# Altium schematic symbol library jlcpcb_2025_04_inductors_extended_1210.schlib: 422 symbols (part 1 of 8)
Pins are listed as number, name and electrical type; pins without a type are passive.

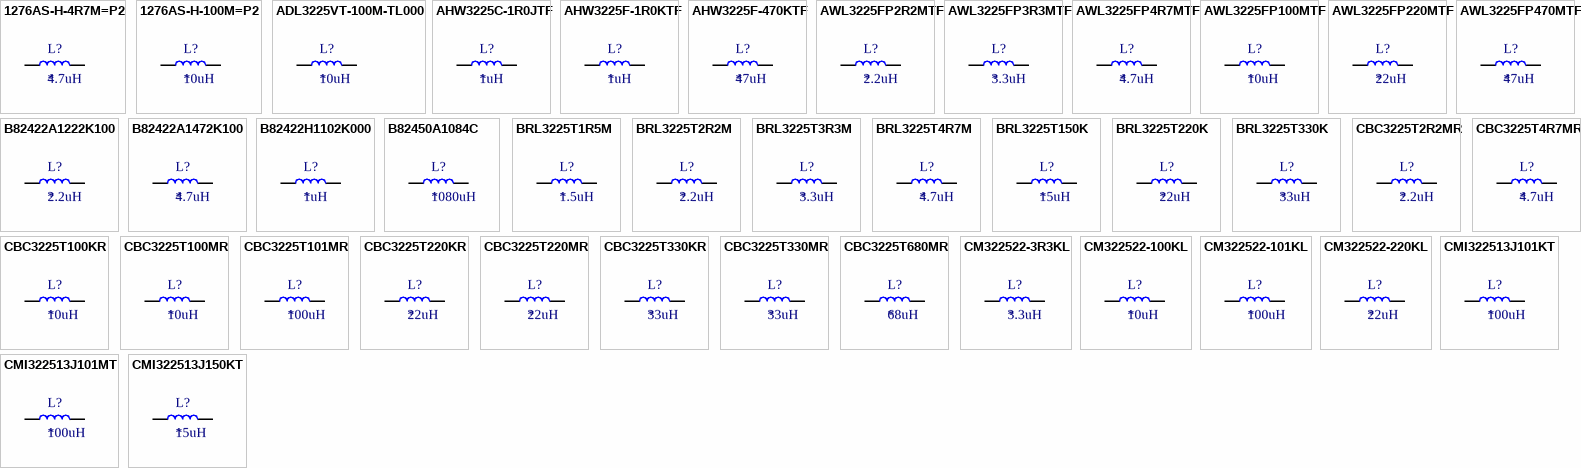
[diagram p0: symbols 1276AS-H-4R7M=P2 to CMI322513J150KT]

## 1276AS-H-4R7M=P2
designator L?  Inductance: 4.7uH
Inductor, 4.7uH, ±20%, 264mΩ, SMD 1210; Manufacturer: Murata Electronics; Manufacturer Part Number: 1276AS-H-4R7M=P2; Package Size: 1210; JLCPCB Basic Part: No; JLCPCB Part Number: C1330201; Supplier 1: LCSC; Category: Inductors; Supplier Part Number 1: C1330201; Tolerance: ±20%; DC Resistance: 264mΩ; RoHS: Yes; ComponentLink1Description: Datasheet; ComponentLink1URL: https://wmsc.lcsc.com/wmsc/upload/file/pdf/v2/lcsc/2304140030_Murata-Electronics-1276AS-H-4R7M-P2_C1330201.pdf; ComponentLink2Description: JLCPCB Part URL; ComponentLink2URL: https://jlcpcb.com/partdetail/C1330201; ComponentLink3Description: LCSC Part URL; ComponentLink3URL: https://lcsc.com/product-detail/Inductors-SMD_Murata-Electronics-Murata-Electronics-1276AS-H-4R7M%3DP2_C1330201.html
footprint IND-1210 (1210 (3225M) Inductor)
pins: 1, 2

## 1276AS-H-100M=P2
designator L?  Inductance: 10uH
Inductor, 10uH, ±20%, 588mΩ, 800mA, SMD 1210; Manufacturer: Murata Electronics; Manufacturer Part Number: 1276AS-H-100M=P2; Saturation Current: 1A; Package Size: 1210; JLCPCB Basic Part: No; JLCPCB Part Number: C2041531; Supplier 1: LCSC; Category: Inductors; Supplier Part Number 1: C2041531; Tolerance: ±20%; Rated Current: 800mA; DC Resistance: 588mΩ; RoHS: Yes; ComponentLink1Description: Datasheet; ComponentLink1URL: https://wmsc.lcsc.com/wmsc/upload/file/pdf/v2/lcsc/2304140030_Murata-Electronics-1276AS-H-100M-P2_C2041531.pdf; ComponentLink2Description: JLCPCB Part URL; ComponentLink2URL: https://jlcpcb.com/partdetail/C2041531; ComponentLink3Description: LCSC Part URL; ComponentLink3URL: https://lcsc.com/product-detail/Power-Inductors_Murata-Electronics-Murata-Electronics-1276AS-H-100M%3DP2_C2041531.html
footprint IND-1210 (1210 (3225M) Inductor)
pins: 1, 2

## ADL3225VT-100M-TL000
designator L?  Inductance: 10uH
Inductor, 10uH, ±20%, 150mΩ, 450mA, SMD 1210; Manufacturer: TDK; Manufacturer Part Number: ADL3225VT-100M-TL000; Package Size: 1210; JLCPCB Basic Part: No; JLCPCB Part Number: C2045459; Supplier 1: LCSC; Category: Inductors; Supplier Part Number 1: C2045459; Tolerance: ±20%; Rated Current: 450mA; Saturation Current: 450mA; DC Resistance: 150mΩ; RoHS: Yes; ComponentLink1Description: Datasheet; ComponentLink1URL: https://wmsc.lcsc.com/wmsc/upload/file/pdf/v2/lcsc/2202010230_TDK-ADL3225VT-100M-TL000_C2045459.pdf; ComponentLink2Description: JLCPCB Part URL; ComponentLink2URL: https://jlcpcb.com/partdetail/C2045459; ComponentLink3Description: LCSC Part URL; ComponentLink3URL: https://lcsc.com/product-detail/Power-Inductors_TDK-TDK-ADL3225VT-100M-TL000_C2045459.html
footprint IND-1210 (1210 (3225M) Inductor)
pins: 1, 2

## AHW3225C-1R0JTF
designator L?  Inductance: 1uH
Inductor, 1uH, ±5%, 1.85Ω, 320mA, SMD 1210; Manufacturer: APV; Manufacturer Part Number: AHW3225C-1R0JTF; Self-Resonant Frequency: 340MHz; Q Factor: 45@150MHZ; Package Size: 1210; JLCPCB Basic Part: No; JLCPCB Part Number: C18184914; Supplier 1: LCSC; Category: Inductors; Supplier Part Number 1: C18184914; Tolerance: ±5%; Rated Current: 320mA; DC Resistance: 1.85Ω; RoHS: Yes; ComponentLink1Description: Datasheet; ComponentLink1URL: https://wmsc.lcsc.com/wmsc/upload/file/pdf/v2/lcsc/2309151707_APV-AHW3225C-1R0JTF_C18184914.pdf; ComponentLink2Description: JLCPCB Part URL; ComponentLink2URL: https://jlcpcb.com/partdetail/C18184914; ComponentLink3Description: LCSC Part URL; ComponentLink3URL: https://lcsc.com/product-detail/Inductors-SMD_APV-APV-AHW3225C-1R0JTF_C18184914.html
footprint IND-1210 (1210 (3225M) Inductor)
pins: 1, 2

## AHW3225F-1R0KTF
designator L?  Inductance: 1uH
Inductor, 1uH, ±10%, 400mΩ, 450mA, SMD 1210; Manufacturer: APV; Manufacturer Part Number: AHW3225F-1R0KTF; Self-Resonant Frequency: 200MHz; Q Factor: 20; Package Size: 1210; JLCPCB Basic Part: No; JLCPCB Part Number: C18184941; Supplier 1: LCSC; Category: Inductors; Supplier Part Number 1: C18184941; Tolerance: ±10%; Rated Current: 450mA; DC Resistance: 400mΩ; RoHS: Yes; ComponentLink1Description: Datasheet; ComponentLink1URL: https://wmsc.lcsc.com/wmsc/upload/file/pdf/v2/lcsc/2309151707_APV-AHW3225F-1R0KTF_C18184941.pdf; ComponentLink2Description: JLCPCB Part URL; ComponentLink2URL: https://jlcpcb.com/partdetail/C18184941; ComponentLink3Description: LCSC Part URL; ComponentLink3URL: https://lcsc.com/product-detail/Inductors-SMD_APV-APV-AHW3225F-1R0KTF_C18184941.html
footprint IND-1210 (1210 (3225M) Inductor)
pins: 1, 2

## AHW3225F-470KTF
designator L?  Inductance: 47uH
Inductor, 47uH, ±10%, 5.2Ω, 140mA, SMD 1210; Manufacturer: APV; Manufacturer Part Number: AHW3225F-470KTF; Self-Resonant Frequency: 10MHz; Q Factor: 15; Package Size: 1210; JLCPCB Basic Part: No; JLCPCB Part Number: C18184947; Supplier 1: LCSC; Category: Inductors; Supplier Part Number 1: C18184947; Tolerance: ±10%; Rated Current: 140mA; DC Resistance: 5.2Ω; RoHS: Yes; ComponentLink1Description: Datasheet; ComponentLink1URL: https://wmsc.lcsc.com/wmsc/upload/file/pdf/v2/lcsc/2309151707_APV-AHW3225F-470KTF_C18184947.pdf; ComponentLink2Description: JLCPCB Part URL; ComponentLink2URL: https://jlcpcb.com/partdetail/C18184947; ComponentLink3Description: LCSC Part URL; ComponentLink3URL: https://lcsc.com/product-detail/Inductors-SMD_APV-APV-AHW3225F-470KTF_C18184947.html
footprint IND-1210 (1210 (3225M) Inductor)
pins: 1, 2

## AWL3225FP2R2MTF
designator L?  Inductance: 2.2uH
Inductor, 2.2uH, ±20%, 190mΩ, 1A, SMD 1210; Manufacturer: Sunlord; Manufacturer Part Number: AWL3225FP2R2MTF; Package Size: 1210; JLCPCB Basic Part: No; JLCPCB Part Number: C2846224; Supplier 1: LCSC; Category: Inductors; Supplier Part Number 1: C2846224; Tolerance: ±20%; Rated Current: 1A; Saturation Current: 1A; DC Resistance: 190mΩ; RoHS: Yes; ComponentLink1Description: Datasheet; ComponentLink1URL: https://wmsc.lcsc.com/wmsc/upload/file/pdf/v2/lcsc/2310301640_Sunlord-AWL3225FP2R2MTF_C2846224.pdf; ComponentLink2Description: JLCPCB Part URL; ComponentLink2URL: https://jlcpcb.com/partdetail/C2846224; ComponentLink3Description: LCSC Part URL; ComponentLink3URL: https://lcsc.com/product-detail/Inductors-SMD_Sunlord-Sunlord-AWL3225FP2R2MTF_C2846224.html
footprint IND-1210 (1210 (3225M) Inductor)
pins: 1, 2

## AWL3225FP3R3MTF
designator L?  Inductance: 3.3uH
Inductor, 3.3uH, ±20%, 240mΩ, 950mA, SMD 1210; Manufacturer: Sunlord; Manufacturer Part Number: AWL3225FP3R3MTF; Package Size: 1210; JLCPCB Basic Part: No; JLCPCB Part Number: C2846226; Supplier 1: LCSC; Category: Inductors; Supplier Part Number 1: C2846226; Tolerance: ±20%; Rated Current: 950mA; Saturation Current: 950mA; DC Resistance: 240mΩ; RoHS: Yes; ComponentLink1Description: Datasheet; ComponentLink1URL: https://wmsc.lcsc.com/wmsc/upload/file/pdf/v2/lcsc/2310301640_Sunlord-AWL3225FP3R3MTF_C2846226.pdf; ComponentLink2Description: JLCPCB Part URL; ComponentLink2URL: https://jlcpcb.com/partdetail/C2846226; ComponentLink3Description: LCSC Part URL; ComponentLink3URL: https://lcsc.com/product-detail/Inductors-SMD_Sunlord-Sunlord-AWL3225FP3R3MTF_C2846226.html
footprint IND-1210 (1210 (3225M) Inductor)
pins: 1, 2

## AWL3225FP4R7MTF
designator L?  Inductance: 4.7uH
Inductor, 4.7uH, ±20%, 280mΩ, 850mA, SMD 1210; Manufacturer: Sunlord; Manufacturer Part Number: AWL3225FP4R7MTF; Package Size: 1210; JLCPCB Basic Part: No; JLCPCB Part Number: C2846227; Supplier 1: LCSC; Category: Inductors; Supplier Part Number 1: C2846227; Tolerance: ±20%; Rated Current: 850mA; Saturation Current: 850mA; DC Resistance: 280mΩ; RoHS: Yes; ComponentLink1Description: Datasheet; ComponentLink1URL: https://wmsc.lcsc.com/wmsc/upload/file/pdf/v2/lcsc/2310301640_Sunlord-AWL3225FP4R7MTF_C2846227.pdf; ComponentLink2Description: JLCPCB Part URL; ComponentLink2URL: https://jlcpcb.com/partdetail/C2846227; ComponentLink3Description: LCSC Part URL; ComponentLink3URL: https://lcsc.com/product-detail/Inductors-SMD_Sunlord-Sunlord-AWL3225FP4R7MTF_C2846227.html
footprint IND-1210 (1210 (3225M) Inductor)
pins: 1, 2

## AWL3225FP100MTF
designator L?  Inductance: 10uH
Inductor, 10uH, ±20%, 400mΩ, SMD 1210; Manufacturer: Sunlord; Manufacturer Part Number: AWL3225FP100MTF; Saturation Current: 500mA; Package Size: 1210; JLCPCB Basic Part: No; JLCPCB Part Number: C2846228; Supplier 1: LCSC; Category: Inductors; Supplier Part Number 1: C2846228; Tolerance: ±20%; DC Resistance: 400mΩ; RoHS: Yes; ComponentLink1Description: Datasheet; ComponentLink1URL: https://wmsc.lcsc.com/wmsc/upload/file/pdf/v2/lcsc/2310271614_Sunlord-AWL3225FP100MTF_C2846228.pdf; ComponentLink2Description: JLCPCB Part URL; ComponentLink2URL: https://jlcpcb.com/partdetail/C2846228; ComponentLink3Description: LCSC Part URL; ComponentLink3URL: https://lcsc.com/product-detail/Inductors-SMD_Sunlord-Sunlord-AWL3225FP100MTF_C2846228.html
footprint IND-1210 (1210 (3225M) Inductor)
pins: 1, 2

## AWL3225FP220MTF
designator L?  Inductance: 22uH
Inductor, 22uH, ±20%, 620mΩ, SMD 1210; Manufacturer: Sunlord; Manufacturer Part Number: AWL3225FP220MTF; Saturation Current: 400mA; Package Size: 1210; JLCPCB Basic Part: No; JLCPCB Part Number: C2846229; Supplier 1: LCSC; Category: Inductors; Supplier Part Number 1: C2846229; Tolerance: ±20%; DC Resistance: 620mΩ; RoHS: Yes; ComponentLink1Description: Datasheet; ComponentLink1URL: https://wmsc.lcsc.com/wmsc/upload/file/pdf/v2/lcsc/2310301640_Sunlord-AWL3225FP220MTF_C2846229.pdf; ComponentLink2Description: JLCPCB Part URL; ComponentLink2URL: https://jlcpcb.com/partdetail/C2846229; ComponentLink3Description: LCSC Part URL; ComponentLink3URL: https://lcsc.com/product-detail/Inductors-SMD_Sunlord-Sunlord-AWL3225FP220MTF_C2846229.html
footprint IND-1210 (1210 (3225M) Inductor)
pins: 1, 2

## AWL3225FP470MTF
designator L?  Inductance: 47uH
Inductor, 47uH, ±20%, 900mΩ, SMD 1210; Manufacturer: Sunlord; Manufacturer Part Number: AWL3225FP470MTF; Saturation Current: 300mA; Package Size: 1210; JLCPCB Basic Part: No; JLCPCB Part Number: C2846230; Supplier 1: LCSC; Category: Inductors; Supplier Part Number 1: C2846230; Tolerance: ±20%; DC Resistance: 900mΩ; RoHS: Yes; ComponentLink1Description: Datasheet; ComponentLink1URL: https://wmsc.lcsc.com/wmsc/upload/file/pdf/v2/lcsc/2310301640_Sunlord-AWL3225FP470MTF_C2846230.pdf; ComponentLink2Description: JLCPCB Part URL; ComponentLink2URL: https://jlcpcb.com/partdetail/C2846230; ComponentLink3Description: LCSC Part URL; ComponentLink3URL: https://lcsc.com/product-detail/Inductors-SMD_Sunlord-Sunlord-AWL3225FP470MTF_C2846230.html
footprint IND-1210 (1210 (3225M) Inductor)
pins: 1, 2

## B82422A1222K100
designator L?  Inductance: 2.2uH
Inductor, 2.2uH, ±10%, 750mΩ, 270mA, SMD 1210; Manufacturer: TDK; Manufacturer Part Number: B82422A1222K100; Self-Resonant Frequency: 125MHz; Q Factor: 25@7.96MHz; Package Size: 1210; JLCPCB Basic Part: No; JLCPCB Part Number: C165772; Supplier 1: LCSC; Category: Inductors; Supplier Part Number 1: C165772; Tolerance: ±10%; Rated Current: 270mA; DC Resistance: 750mΩ; RoHS: Yes; ComponentLink1Description: Datasheet; ComponentLink1URL: https://wmsc.lcsc.com/wmsc/upload/file/pdf/v2/lcsc/1810201240_TDK-B82422A1222K100_C165772.pdf; ComponentLink2Description: JLCPCB Part URL; ComponentLink2URL: https://jlcpcb.com/partdetail/C165772; ComponentLink3Description: LCSC Part URL; ComponentLink3URL: https://lcsc.com/product-detail/Inductors-SMD_TDK-TDK-B82422A1222K100_C165772.html
footprint IND-1210 (1210 (3225M) Inductor)
pins: 1, 2

## B82422A1472K100
designator L?  Inductance: 4.7uH
Inductor, 4.7uH, ±10%, 2.2Ω, 150mA, SMD 1210; Manufacturer: TDK; Manufacturer Part Number: B82422A1472K100; Self-Resonant Frequency: 110MHz; Q Factor: 27@7.96MHz; Package Size: 1210; JLCPCB Basic Part: No; JLCPCB Part Number: C117731; Supplier 1: LCSC; Category: Inductors; Supplier Part Number 1: C117731; Tolerance: ±10%; Rated Current: 150mA; DC Resistance: 2.2Ω; RoHS: Yes; ComponentLink1Description: Datasheet; ComponentLink1URL: https://wmsc.lcsc.com/wmsc/upload/file/pdf/v2/lcsc/2304140030_TDK-B82422A1472K100_C117731.pdf; ComponentLink2Description: JLCPCB Part URL; ComponentLink2URL: https://jlcpcb.com/partdetail/C117731; ComponentLink3Description: LCSC Part URL; ComponentLink3URL: https://lcsc.com/product-detail/Inductors-SMD_TDK-TDK-B82422A1472K100_C117731.html
footprint IND-1210 (1210 (3225M) Inductor)
pins: 1, 2

## B82422H1102K000
designator L?  Inductance: 1uH
Inductor, 1uH, ±10%, 100mΩ, 1.15A, SMD 1210; Manufacturer: TDK; Manufacturer Part Number: B82422H1102K000; Saturation Current: 1.835A; Self-Resonant Frequency: 150MHz; Q Factor: 8@7.96MHz; Package Size: 1210; JLCPCB Basic Part: No; JLCPCB Part Number: C1329476; Supplier 1: LCSC; Category: Inductors; Supplier Part Number 1: C1329476; Tolerance: ±10%; Rated Current: 1.15A; DC Resistance: 100mΩ; RoHS: Yes; ComponentLink1Description: Datasheet; ComponentLink1URL: https://datasheet.lcsc.com/lcsc/2201141430_TDK-B82422H1102K000_C1329476.pdf; ComponentLink2Description: JLCPCB Part URL; ComponentLink2URL: https://jlcpcb.com/partdetail/C1329476; ComponentLink3Description: LCSC Part URL; ComponentLink3URL: https://lcsc.com/product-detail/Inductors-SMD_TDK-TDK-B82422H1102K000_C1329476.html
footprint IND-1210 (1210 (3225M) Inductor)
pins: 1, 2

## B82450A1084C
designator L?  Inductance: 1080uH
Inductor, 1080uH, ±5%, 35Ω, SMD 1210; Manufacturer: TDK; Manufacturer Part Number: B82450A1084C; Package Size: 1210; JLCPCB Basic Part: No; JLCPCB Part Number: C598660; Supplier 1: LCSC; Category: Inductors; Supplier Part Number 1: C598660; Tolerance: ±5%; DC Resistance: 35Ω; RoHS: Yes; ComponentLink1Description: Datasheet; ComponentLink1URL: https://wmsc.lcsc.com/wmsc/upload/file/pdf/v2/lcsc/2007311233_TDK-B82450A1084C_C598660.pdf; ComponentLink2Description: JLCPCB Part URL; ComponentLink2URL: https://jlcpcb.com/partdetail/C598660; ComponentLink3Description: LCSC Part URL; ComponentLink3URL: https://lcsc.com/product-detail/Inductors-SMD_TDK-TDK-B82450A1084C_C598660.html
footprint IND-1210 (1210 (3225M) Inductor)
pins: 1, 2

## BRL3225T1R5M
designator L?  Inductance: 1.5uH
Inductor, 1.5uH, ±20%, 54mΩ, 1.75A, SMD 1210; Manufacturer: Taiyo Yuden; Manufacturer Part Number: BRL3225T1R5M; Saturation Current: 2.2A; Self-Resonant Frequency: 100kHz; Package Size: 1210; JLCPCB Basic Part: No; JLCPCB Part Number: C454087; Supplier 1: LCSC; Category: Inductors; Supplier Part Number 1: C454087; Tolerance: ±20%; Rated Current: 1.75A; DC Resistance: 54mΩ; RoHS: Yes; ComponentLink1Description: Datasheet; ComponentLink1URL: https://wmsc.lcsc.com/wmsc/upload/file/pdf/v2/lcsc/2304140030_Taiyo-Yuden-BRL3225T1R5M_C454087.pdf; ComponentLink2Description: JLCPCB Part URL; ComponentLink2URL: https://jlcpcb.com/partdetail/C454087; ComponentLink3Description: LCSC Part URL; ComponentLink3URL: https://lcsc.com/product-detail/Inductors-SMD_Taiyo-Yuden-Taiyo-Yuden-BRL3225T1R5M_C454087.html
footprint IND-1210 (1210 (3225M) Inductor)
pins: 1, 2

## BRL3225T2R2M
designator L?  Inductance: 2.2uH
Inductor, 2.2uH, ±20%, 78mΩ, 1.6A, SMD 1210; Manufacturer: Taiyo Yuden; Manufacturer Part Number: BRL3225T2R2M; Saturation Current: 1.85A; Package Size: 1210; JLCPCB Basic Part: No; JLCPCB Part Number: C454089; Supplier 1: LCSC; Category: Inductors; Supplier Part Number 1: C454089; Tolerance: ±20%; Rated Current: 1.6A; DC Resistance: 78mΩ; RoHS: Yes; ComponentLink1Description: Datasheet; ComponentLink1URL: https://wmsc.lcsc.com/wmsc/upload/file/pdf/v2/lcsc/2304140030_Taiyo-Yuden-BRL3225T2R2M_C454089.pdf; ComponentLink2Description: JLCPCB Part URL; ComponentLink2URL: https://jlcpcb.com/partdetail/C454089; ComponentLink3Description: LCSC Part URL; ComponentLink3URL: https://lcsc.com/product-detail/Power-Inductors_Taiyo-Yuden-Taiyo-Yuden-BRL3225T2R2M_C454089.html
footprint IND-1210 (1210 (3225M) Inductor)
pins: 1, 2

## BRL3225T3R3M
designator L?  Inductance: 3.3uH
Inductor, 3.3uH, ±20%, 144mΩ, 1.2A, SMD 1210; Manufacturer: Taiyo Yuden; Manufacturer Part Number: BRL3225T3R3M; Saturation Current: 1.45A; Package Size: 1210; JLCPCB Basic Part: No; JLCPCB Part Number: C2046269; Supplier 1: LCSC; Category: Inductors; Supplier Part Number 1: C2046269; Tolerance: ±20%; Rated Current: 1.2A; DC Resistance: 144mΩ; RoHS: Yes; ComponentLink1Description: Datasheet; ComponentLink1URL: https://wmsc.lcsc.com/wmsc/upload/file/pdf/v2/lcsc/2309051353_Taiyo-Yuden-BRL3225T3R3M_C2046269.pdf; ComponentLink2Description: JLCPCB Part URL; ComponentLink2URL: https://jlcpcb.com/partdetail/C2046269; ComponentLink3Description: LCSC Part URL; ComponentLink3URL: https://lcsc.com/product-detail/Power-Inductors_Taiyo-Yuden-Taiyo-Yuden-BRL3225T3R3M_C2046269.html
footprint IND-1210 (1210 (3225M) Inductor)
pins: 1, 2

## BRL3225T4R7M
designator L?  Inductance: 4.7uH
Inductor, 4.7uH, ±20%, 180mΩ, 1A, SMD 1210; Manufacturer: Taiyo Yuden; Manufacturer Part Number: BRL3225T4R7M; Saturation Current: 1.3A; Self-Resonant Frequency: 120MHz; Package Size: 1210; JLCPCB Basic Part: No; JLCPCB Part Number: C454090; Supplier 1: LCSC; Category: Inductors; Supplier Part Number 1: C454090; Tolerance: ±20%; Rated Current: 1A; DC Resistance: 180mΩ; RoHS: Yes; ComponentLink1Description: Datasheet; ComponentLink1URL: https://wmsc.lcsc.com/wmsc/upload/file/pdf/v2/lcsc/2002191103_Taiyo-Yuden-BRL3225T4R7M_C454090.pdf; ComponentLink2Description: JLCPCB Part URL; ComponentLink2URL: https://jlcpcb.com/partdetail/C454090; ComponentLink3Description: LCSC Part URL; ComponentLink3URL: https://lcsc.com/product-detail/Inductors-SMD_Taiyo-Yuden-Taiyo-Yuden-BRL3225T4R7M_C454090.html
footprint IND-1210 (1210 (3225M) Inductor)
pins: 1, 2

## BRL3225T150K
designator L?  Inductance: 15uH
Inductor, 15uH, ±10%, 570mΩ, 530mA, SMD 1210; Manufacturer: Taiyo Yuden; Manufacturer Part Number: BRL3225T150K; Saturation Current: 700mA; Self-Resonant Frequency: 20MHz; Package Size: 1210; JLCPCB Basic Part: No; JLCPCB Part Number: C478845; Supplier 1: LCSC; Category: Inductors; Supplier Part Number 1: C478845; Tolerance: ±10%; Rated Current: 530mA; DC Resistance: 570mΩ; RoHS: Yes; ComponentLink1Description: Datasheet; ComponentLink1URL: https://wmsc.lcsc.com/wmsc/upload/file/pdf/v2/lcsc/2002271925_Taiyo-Yuden-BRL3225T150K_C478845.pdf; ComponentLink2Description: JLCPCB Part URL; ComponentLink2URL: https://jlcpcb.com/partdetail/C478845; ComponentLink3Description: LCSC Part URL; ComponentLink3URL: https://lcsc.com/product-detail/Inductors-SMD_Taiyo-Yuden-Taiyo-Yuden-BRL3225T150K_C478845.html
footprint IND-1210 (1210 (3225M) Inductor)
pins: 1, 2

## BRL3225T220K
designator L?  Inductance: 22uH
Inductor, 22uH, ±10%, 690mΩ, 470mA, SMD 1210; Manufacturer: Taiyo Yuden; Manufacturer Part Number: BRL3225T220K; Package Size: 1210; JLCPCB Basic Part: No; JLCPCB Part Number: C454088; Supplier 1: LCSC; Category: Inductors; Supplier Part Number 1: C454088; Tolerance: ±10%; Rated Current: 470mA; DC Resistance: 690mΩ; RoHS: Yes; ComponentLink1Description: Datasheet; ComponentLink1URL: https://wmsc.lcsc.com/wmsc/upload/file/pdf/v2/lcsc/2304140030_Taiyo-Yuden-BRL3225T220K_C454088.pdf; ComponentLink2Description: JLCPCB Part URL; ComponentLink2URL: https://jlcpcb.com/partdetail/C454088; ComponentLink3Description: LCSC Part URL; ComponentLink3URL: https://lcsc.com/product-detail/Inductors-SMD_Taiyo-Yuden-Taiyo-Yuden-BRL3225T220K_C454088.html
footprint IND-1210 (1210 (3225M) Inductor)
pins: 1, 2

## BRL3225T330K
designator L?  Inductance: 33uH
Inductor, 33uH, ±10%, 1.008Ω, 420mA, SMD 1210; Manufacturer: Taiyo Yuden; Manufacturer Part Number: BRL3225T330K; Saturation Current: 470mA; Package Size: 1210; JLCPCB Basic Part: No; JLCPCB Part Number: C2047418; Supplier 1: LCSC; Category: Inductors; Supplier Part Number 1: C2047418; Tolerance: ±10%; Rated Current: 420mA; DC Resistance: 1.008Ω; RoHS: Yes; ComponentLink1Description: Datasheet; ComponentLink1URL: https://wmsc.lcsc.com/wmsc/upload/file/pdf/v2/lcsc/2309051353_Taiyo-Yuden-BRL3225T330K_C2047418.pdf; ComponentLink2Description: JLCPCB Part URL; ComponentLink2URL: https://jlcpcb.com/partdetail/C2047418; ComponentLink3Description: LCSC Part URL; ComponentLink3URL: https://lcsc.com/product-detail/Power-Inductors_Taiyo-Yuden-Taiyo-Yuden-BRL3225T330K_C2047418.html
footprint IND-1210 (1210 (3225M) Inductor)
pins: 1, 2

## CBC3225T2R2MR
designator L?  Inductance: 2.2uH
Inductor, 2.2uH, ±20%, 104mΩ, 1.13A, SMD 1210; Manufacturer: Taiyo Yuden; Manufacturer Part Number: CBC3225T2R2MR; Saturation Current: 2A; Self-Resonant Frequency: 100kHz; Package Size: 1210; JLCPCB Basic Part: No; JLCPCB Part Number: C92980; Supplier 1: LCSC; Category: Inductors; Supplier Part Number 1: C92980; Tolerance: ±20%; Rated Current: 1.13A; DC Resistance: 104mΩ; RoHS: Yes; ComponentLink1Description: Datasheet; ComponentLink1URL: https://wmsc.lcsc.com/wmsc/upload/file/pdf/v2/lcsc/1810171818_Taiyo-Yuden-CBC3225T2R2MR_C92980.pdf; ComponentLink2Description: JLCPCB Part URL; ComponentLink2URL: https://jlcpcb.com/partdetail/C92980; ComponentLink3Description: LCSC Part URL; ComponentLink3URL: https://lcsc.com/product-detail/Inductors-SMD_Taiyo-Yuden-Taiyo-Yuden-CBC3225T2R2MR_C92980.html
footprint IND-1210 (1210 (3225M) Inductor)
pins: 1, 2

## CBC3225T4R7MR
designator L?  Inductance: 4.7uH
Inductor, 4.7uH, ±20%, 130mΩ, 1.01A, SMD 1210; Manufacturer: Taiyo Yuden; Manufacturer Part Number: CBC3225T4R7MR; Saturation Current: 1.25A; Self-Resonant Frequency: 100kHz; Package Size: 1210; JLCPCB Basic Part: No; JLCPCB Part Number: C90319; Supplier 1: LCSC; Category: Inductors; Supplier Part Number 1: C90319; Tolerance: ±20%; Rated Current: 1.01A; DC Resistance: 130mΩ; RoHS: Yes; ComponentLink1Description: Datasheet; ComponentLink1URL: https://wmsc.lcsc.com/wmsc/upload/file/pdf/v2/lcsc/2304140030_Taiyo-Yuden-CBC3225T4R7MR_C90319.pdf; ComponentLink2Description: JLCPCB Part URL; ComponentLink2URL: https://jlcpcb.com/partdetail/C90319; ComponentLink3Description: LCSC Part URL; ComponentLink3URL: https://lcsc.com/product-detail/Inductors-SMD_Taiyo-Yuden-Taiyo-Yuden-CBC3225T4R7MR_C90319.html
footprint IND-1210 (1210 (3225M) Inductor)
pins: 1, 2

## CBC3225T100KR
designator L?  Inductance: 10uH
Inductor, 10uH, ±10%, 172.9mΩ, 900mA, SMD 1210; Manufacturer: Taiyo Yuden; Manufacturer Part Number: CBC3225T100KR; Self-Resonant Frequency: 100kHz; Package Size: 1210; JLCPCB Basic Part: No; JLCPCB Part Number: C90321; Supplier 1: LCSC; Category: Inductors; Supplier Part Number 1: C90321; Tolerance: ±10%; Rated Current: 900mA; Saturation Current: 900mA; DC Resistance: 172.9mΩ; RoHS: Yes; ComponentLink1Description: Datasheet; ComponentLink1URL: https://wmsc.lcsc.com/wmsc/upload/file/pdf/v2/lcsc/2304140030_Taiyo-Yuden-CBC3225T100KR_C90321.pdf; ComponentLink2Description: JLCPCB Part URL; ComponentLink2URL: https://jlcpcb.com/partdetail/C90321; ComponentLink3Description: LCSC Part URL; ComponentLink3URL: https://lcsc.com/product-detail/Inductors-SMD_Taiyo-Yuden-Taiyo-Yuden-CBC3225T100KR_C90321.html
footprint IND-1210 (1210 (3225M) Inductor)
pins: 1, 2

## CBC3225T100MR
designator L?  Inductance: 10uH
Inductor, 10uH, ±20%, 172.9mΩ, 900mA, SMD 1210; Manufacturer: Taiyo Yuden; Manufacturer Part Number: CBC3225T100MR; Self-Resonant Frequency: 100kHz; Package Size: 1210; JLCPCB Basic Part: No; JLCPCB Part Number: C90315; Supplier 1: LCSC; Category: Inductors; Supplier Part Number 1: C90315; Tolerance: ±20%; Rated Current: 900mA; Saturation Current: 900mA; DC Resistance: 172.9mΩ; RoHS: Yes; ComponentLink1Description: Datasheet; ComponentLink1URL: https://wmsc.lcsc.com/wmsc/upload/file/pdf/v2/lcsc/2304140030_Taiyo-Yuden-CBC3225T100MR_C90315.pdf; ComponentLink2Description: JLCPCB Part URL; ComponentLink2URL: https://jlcpcb.com/partdetail/C90315; ComponentLink3Description: LCSC Part URL; ComponentLink3URL: https://lcsc.com/product-detail/Inductors-SMD_Taiyo-Yuden-Taiyo-Yuden-CBC3225T100MR_C90315.html
footprint IND-1210 (1210 (3225M) Inductor)
pins: 1, 2

## CBC3225T101MR
designator L?  Inductance: 100uH
Inductor, 100uH, ±20%, 1.82Ω, 270mA, SMD 1210; Manufacturer: Taiyo Yuden; Manufacturer Part Number: CBC3225T101MR; Package Size: 1210; JLCPCB Basic Part: No; JLCPCB Part Number: C90316; Supplier 1: LCSC; Category: Inductors; Supplier Part Number 1: C90316; Tolerance: ±20%; Rated Current: 270mA; DC Resistance: 1.82Ω; RoHS: Yes; ComponentLink1Description: Datasheet; ComponentLink1URL: https://wmsc.lcsc.com/wmsc/upload/file/pdf/v2/lcsc/2304140030_Taiyo-Yuden-CBC3225T101MR_C90316.pdf; ComponentLink2Description: JLCPCB Part URL; ComponentLink2URL: https://jlcpcb.com/partdetail/C90316; ComponentLink3Description: LCSC Part URL; ComponentLink3URL: https://lcsc.com/product-detail/Inductors-SMD_Taiyo-Yuden-Taiyo-Yuden-CBC3225T101MR_C90316.html
footprint IND-1210 (1210 (3225M) Inductor)
pins: 1, 2

## CBC3225T220KR
designator L?  Inductance: 22uH
Inductor, 22uH, ±10%, 270mΩ, 620mA, SMD 1210; Manufacturer: Taiyo Yuden; Manufacturer Part Number: CBC3225T220KR; Package Size: 1210; JLCPCB Basic Part: No; JLCPCB Part Number: C223225; Supplier 1: LCSC; Category: Inductors; Supplier Part Number 1: C223225; Tolerance: ±10%; Rated Current: 620mA; DC Resistance: 270mΩ; RoHS: Yes; ComponentLink1Description: Datasheet; ComponentLink1URL: https://wmsc.lcsc.com/wmsc/upload/file/pdf/v2/lcsc/2304140030_Taiyo-Yuden-CBC3225T220KR_C223225.pdf; ComponentLink2Description: JLCPCB Part URL; ComponentLink2URL: https://jlcpcb.com/partdetail/C223225; ComponentLink3Description: LCSC Part URL; ComponentLink3URL: https://lcsc.com/product-detail/Inductors-SMD_Taiyo-Yuden-Taiyo-Yuden-CBC3225T220KR_C223225.html
footprint IND-1210 (1210 (3225M) Inductor)
pins: 1, 2

## CBC3225T220MR
designator L?  Inductance: 22uH
Inductor, 22uH, ±20%, 351mΩ, 620mA, SMD 1210; Manufacturer: Taiyo Yuden; Manufacturer Part Number: CBC3225T220MR; Self-Resonant Frequency: 17MHz; Package Size: 1210; JLCPCB Basic Part: No; JLCPCB Part Number: C90320; Supplier 1: LCSC; Category: Inductors; Supplier Part Number 1: C90320; Tolerance: ±20%; Rated Current: 620mA; Saturation Current: 620mA; DC Resistance: 351mΩ; RoHS: Yes; ComponentLink1Description: Datasheet; ComponentLink1URL: https://wmsc.lcsc.com/wmsc/upload/file/pdf/v2/lcsc/2304140030_Taiyo-Yuden-CBC3225T220MR_C90320.pdf; ComponentLink2Description: JLCPCB Part URL; ComponentLink2URL: https://jlcpcb.com/partdetail/C90320; ComponentLink3Description: LCSC Part URL; ComponentLink3URL: https://lcsc.com/product-detail/Inductors-SMD_Taiyo-Yuden-Taiyo-Yuden-CBC3225T220MR_C90320.html
footprint IND-1210 (1210 (3225M) Inductor)
pins: 1, 2

## CBC3225T330KR
designator L?  Inductance: 33uH
Inductor, 33uH, ±10%, 410mΩ, 500mA, SMD 1210; Manufacturer: Taiyo Yuden; Manufacturer Part Number: CBC3225T330KR; Self-Resonant Frequency: 13MHz; Package Size: 1210; JLCPCB Basic Part: No; JLCPCB Part Number: C223226; Supplier 1: LCSC; Category: Inductors; Supplier Part Number 1: C223226; Tolerance: ±10%; Rated Current: 500mA; Saturation Current: 500mA; DC Resistance: 410mΩ; RoHS: Yes; ComponentLink1Description: Datasheet; ComponentLink1URL: https://wmsc.lcsc.com/wmsc/upload/file/pdf/v2/lcsc/2304140030_Taiyo-Yuden-CBC3225T330KR_C223226.pdf; ComponentLink2Description: JLCPCB Part URL; ComponentLink2URL: https://jlcpcb.com/partdetail/C223226; ComponentLink3Description: LCSC Part URL; ComponentLink3URL: https://lcsc.com/product-detail/Inductors-SMD_Taiyo-Yuden-Taiyo-Yuden-CBC3225T330KR_C223226.html
footprint IND-1210 (1210 (3225M) Inductor)
pins: 1, 2

## CBC3225T330MR
designator L?  Inductance: 33uH
Inductor, 33uH, ±20%, 533mΩ, 500mA, SMD 1210; Manufacturer: Taiyo Yuden; Manufacturer Part Number: CBC3225T330MR; Self-Resonant Frequency: 13MHz; Package Size: 1210; JLCPCB Basic Part: No; JLCPCB Part Number: C90317; Supplier 1: LCSC; Category: Inductors; Supplier Part Number 1: C90317; Tolerance: ±20%; Rated Current: 500mA; Saturation Current: 500mA; DC Resistance: 533mΩ; RoHS: Yes; ComponentLink1Description: Datasheet; ComponentLink1URL: https://wmsc.lcsc.com/wmsc/upload/file/pdf/v2/lcsc/2304140030_Taiyo-Yuden-CBC3225T330MR_C90317.pdf; ComponentLink2Description: JLCPCB Part URL; ComponentLink2URL: https://jlcpcb.com/partdetail/C90317; ComponentLink3Description: LCSC Part URL; ComponentLink3URL: https://lcsc.com/product-detail/Inductors-SMD_Taiyo-Yuden-Taiyo-Yuden-CBC3225T330MR_C90317.html
footprint IND-1210 (1210 (3225M) Inductor)
pins: 1, 2

## CBC3225T680MR
designator L?  Inductance: 68uH
Inductor, 68uH, ±20%, 1Ω, 320mA, SMD 1210; Manufacturer: Taiyo Yuden; Manufacturer Part Number: CBC3225T680MR; Self-Resonant Frequency: 8MHz; Package Size: 1210; JLCPCB Basic Part: No; JLCPCB Part Number: C223227; Supplier 1: LCSC; Category: Inductors; Supplier Part Number 1: C223227; Tolerance: ±20%; Rated Current: 320mA; Saturation Current: 320mA; DC Resistance: 1Ω; RoHS: Yes; ComponentLink1Description: Datasheet; ComponentLink1URL: https://wmsc.lcsc.com/wmsc/upload/file/pdf/v2/lcsc/2304140030_Taiyo-Yuden-CBC3225T680MR_C223227.pdf; ComponentLink2Description: JLCPCB Part URL; ComponentLink2URL: https://jlcpcb.com/partdetail/C223227; ComponentLink3Description: LCSC Part URL; ComponentLink3URL: https://lcsc.com/product-detail/Inductors-SMD_Taiyo-Yuden-Taiyo-Yuden-CBC3225T680MR_C223227.html
footprint IND-1210 (1210 (3225M) Inductor)
pins: 1, 2

## CM322522-3R3KL
designator L?  Inductance: 3.3uH
Inductor, 3.3uH, ±10%, 1.2Ω, 260mA, SMD 1210; Manufacturer: BOURNS; Manufacturer Part Number: CM322522-3R3KL; Self-Resonant Frequency: 60MHz; Q Factor: 30@7.96MHz; Package Size: 1210; JLCPCB Basic Part: No; JLCPCB Part Number: C1331674; Supplier 1: LCSC; Category: Inductors; Supplier Part Number 1: C1331674; Tolerance: ±10%; Rated Current: 260mA; DC Resistance: 1.2Ω; RoHS: Yes; ComponentLink1Description: Datasheet; ComponentLink1URL: https://wmsc.lcsc.com/wmsc/upload/file/pdf/v2/lcsc/2304140030_BOURNS-CM322522-3R3KL_C1331674.pdf; ComponentLink2Description: JLCPCB Part URL; ComponentLink2URL: https://jlcpcb.com/partdetail/C1331674; ComponentLink3Description: LCSC Part URL; ComponentLink3URL: https://lcsc.com/product-detail/Inductors-SMD_BOURNS-BOURNS-CM322522-3R3KL_C1331674.html
footprint IND-1210 (1210 (3225M) Inductor)
pins: 1, 2

## CM322522-100KL
designator L?  Inductance: 10uH
Inductor, 10uH, ±10%, 2.1Ω, 140mA, SMD 1210; Manufacturer: BOURNS; Manufacturer Part Number: CM322522-100KL; Package Size: 1210; JLCPCB Basic Part: No; JLCPCB Part Number: C840633; Supplier 1: LCSC; Category: Inductors; Supplier Part Number 1: C840633; Tolerance: ±10%; Rated Current: 140mA; DC Resistance: 2.1Ω; RoHS: Yes; ComponentLink1Description: Datasheet; ComponentLink1URL: https://wmsc.lcsc.com/wmsc/upload/file/pdf/v2/lcsc/2203221230_BOURNS-CM322522-100KL_C840633.pdf; ComponentLink2Description: JLCPCB Part URL; ComponentLink2URL: https://jlcpcb.com/partdetail/C840633; ComponentLink3Description: LCSC Part URL; ComponentLink3URL: https://lcsc.com/product-detail/Power-Inductors_BOURNS-BOURNS-CM322522-100KL_C840633.html
footprint IND-1210 (1210 (3225M) Inductor)
pins: 1, 2

## CM322522-101KL
designator L?  Inductance: 100uH
Inductor, 100uH, ±10%, 11Ω, 40mA, SMD 1210; Manufacturer: BOURNS; Manufacturer Part Number: CM322522-101KL; Self-Resonant Frequency: 10MHz; Q Factor: 20@0.796MHz; Package Size: 1210; JLCPCB Basic Part: No; JLCPCB Part Number: C1329512; Supplier 1: LCSC; Category: Inductors; Supplier Part Number 1: C1329512; Tolerance: ±10%; Rated Current: 40mA; DC Resistance: 11Ω; RoHS: Yes; ComponentLink1Description: Datasheet; ComponentLink1URL: https://wmsc.lcsc.com/wmsc/upload/file/pdf/v2/lcsc/2304140030_BOURNS-CM322522-101KL_C1329512.pdf; ComponentLink2Description: JLCPCB Part URL; ComponentLink2URL: https://jlcpcb.com/partdetail/C1329512; ComponentLink3Description: LCSC Part URL; ComponentLink3URL: https://lcsc.com/product-detail/Inductors-SMD_BOURNS-BOURNS-CM322522-101KL_C1329512.html
footprint IND-1210 (1210 (3225M) Inductor)
pins: 1, 2

## CM322522-220KL
designator L?  Inductance: 22uH
Inductor, 22uH, ±10%, 3.7Ω, 105mA, SMD 1210; Manufacturer: BOURNS; Manufacturer Part Number: CM322522-220KL; Package Size: 1210; JLCPCB Basic Part: No; JLCPCB Part Number: C2041662; Supplier 1: LCSC; Category: Inductors; Supplier Part Number 1: C2041662; Tolerance: ±10%; Rated Current: 105mA; DC Resistance: 3.7Ω; RoHS: Yes; ComponentLink1Description: Datasheet; ComponentLink1URL: https://wmsc.lcsc.com/wmsc/upload/file/pdf/v2/lcsc/2304140030_BOURNS-CM322522-220KL_C2041662.pdf; ComponentLink2Description: JLCPCB Part URL; ComponentLink2URL: https://jlcpcb.com/partdetail/C2041662; ComponentLink3Description: LCSC Part URL; ComponentLink3URL: https://lcsc.com/product-detail/Power-Inductors_BOURNS-BOURNS-CM322522-220KL_C2041662.html
footprint IND-1210 (1210 (3225M) Inductor)
pins: 1, 2

## CMI322513J101KT
designator L?  Inductance: 100uH
Inductor, 100uH, ±10%, SMD 1210; Manufacturer: FH(Guangdong Fenghua Advanced Tech); Manufacturer Part Number: CMI322513J101KT; Package Size: 1210; JLCPCB Basic Part: No; JLCPCB Part Number: C27775; Supplier 1: LCSC; Category: Inductors; Supplier Part Number 1: C27775; Tolerance: ±10%; RoHS: Yes; ComponentLink1Description: Datasheet; ComponentLink1URL: https://wmsc.lcsc.com/wmsc/upload/file/pdf/v2/lcsc/2304140030_FH--Guangdong-Fenghua-Advanced-Tech-CMI322513J101KT_C27775.pdf; ComponentLink2Description: JLCPCB Part URL; ComponentLink2URL: https://jlcpcb.com/partdetail/C27775; ComponentLink3Description: LCSC Part URL; ComponentLink3URL: https://lcsc.com/product-detail/Inductors-SMD_FH-Guangdong-Fenghua-Advanced-Tech-FH-Guangdong-Fenghua-Advanced-Tech-CMI322513J101KT_C27775.html
footprint IND-1210 (1210 (3225M) Inductor)
pins: 1, 2

## CMI322513J101MT
designator L?  Inductance: 100uH
Inductor, 100uH, ±20%, 1.5Ω, 150mA, SMD 1210; Manufacturer: FH(Guangdong Fenghua Advanced Tech); Manufacturer Part Number: CMI322513J101MT; Self-Resonant Frequency: 5MHz; Q Factor: 35@1MHz; Package Size: 1210; JLCPCB Basic Part: No; JLCPCB Part Number: C1322422; Supplier 1: LCSC; Category: Inductors; Supplier Part Number 1: C1322422; Tolerance: ±20%; Rated Current: 150mA; DC Resistance: 1.5Ω; RoHS: Yes; ComponentLink1Description: Datasheet; ComponentLink1URL: https://wmsc.lcsc.com/wmsc/upload/file/pdf/v2/lcsc/2302231130_FH--Guangdong-Fenghua-Advanced-Tech-CMI322513J101MT_C1322422.pdf; ComponentLink2Description: JLCPCB Part URL; ComponentLink2URL: https://jlcpcb.com/partdetail/C1322422; ComponentLink3Description: LCSC Part URL; ComponentLink3URL: https://lcsc.com/product-detail/Inductors-SMD_FH-Guangdong-Fenghua-Advanced-Tech-FH-Guangdong-Fenghua-Advanced-Tech-CMI322513J101MT_C1322422.html
footprint IND-1210 (1210 (3225M) Inductor)
pins: 1, 2

## CMI322513J150KT
designator L?  Inductance: 15uH
Inductor, 15uH, ±10%, 700mΩ, 300mA, SMD 1210; Manufacturer: FH(Guangdong Fenghua Advanced Tech); Manufacturer Part Number: CMI322513J150KT; Self-Resonant Frequency: 20MHz; Q Factor: 35@1MHz; Package Size: 1210; JLCPCB Basic Part: No; JLCPCB Part Number: C394990; Supplier 1: LCSC; Category: Inductors; Supplier Part Number 1: C394990; Tolerance: ±10%; Rated Current: 300mA; DC Resistance: 700mΩ; RoHS: Yes; ComponentLink1Description: Datasheet; ComponentLink1URL: https://wmsc.lcsc.com/wmsc/upload/file/pdf/v2/lcsc/2302231030_FH--Guangdong-Fenghua-Advanced-Tech-CMI322513J150KT_C394990.pdf; ComponentLink2Description: JLCPCB Part URL; ComponentLink2URL: https://jlcpcb.com/partdetail/C394990; ComponentLink3Description: LCSC Part URL; ComponentLink3URL: https://lcsc.com/product-detail/Inductors-SMD_FH-Guangdong-Fenghua-Advanced-Tech-FH-Guangdong-Fenghua-Advanced-Tech-CMI322513J150KT_C394990.html
footprint IND-1210 (1210 (3225M) Inductor)
pins: 1, 2

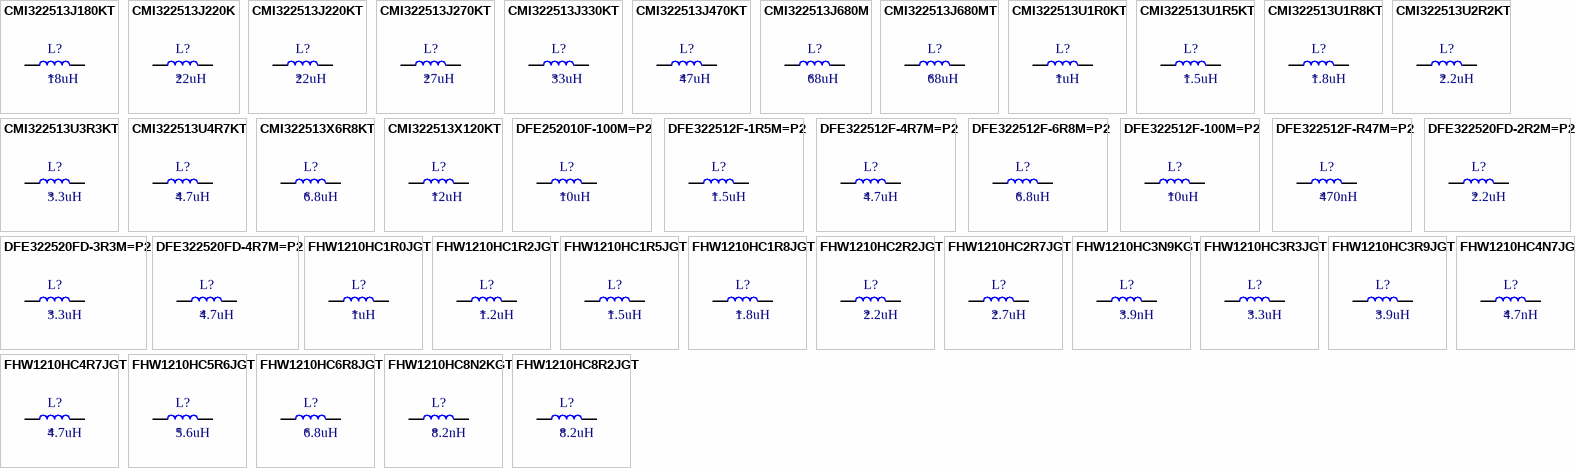
[diagram p1: symbols CMI322513J180KT to FHW1210HC8R2JGT]

## CMI322513J180KT
designator L?  Inductance: 18uH
Inductor, 18uH, ±10%, 700mΩ, 300mA, SMD 1210; Manufacturer: FH(Guangdong Fenghua Advanced Tech); Manufacturer Part Number: CMI322513J180KT; Self-Resonant Frequency: 10MHz; Q Factor: 35@1MHz; Package Size: 1210; JLCPCB Basic Part: No; JLCPCB Part Number: C394991; Supplier 1: LCSC; Category: Inductors; Supplier Part Number 1: C394991; Tolerance: ±10%; Rated Current: 300mA; DC Resistance: 700mΩ; RoHS: Yes; ComponentLink1Description: Datasheet; ComponentLink1URL: https://wmsc.lcsc.com/wmsc/upload/file/pdf/v2/lcsc/2302231030_FH--Guangdong-Fenghua-Advanced-Tech-CMI322513J180KT_C394991.pdf; ComponentLink2Description: JLCPCB Part URL; ComponentLink2URL: https://jlcpcb.com/partdetail/C394991; ComponentLink3Description: LCSC Part URL; ComponentLink3URL: https://lcsc.com/product-detail/Inductors-SMD_FH-Guangdong-Fenghua-Advanced-Tech-FH-Guangdong-Fenghua-Advanced-Tech-CMI322513J180KT_C394991.html
footprint IND-1210 (1210 (3225M) Inductor)
pins: 1, 2

## CMI322513J220K
designator L?  Inductance: 22uH
Inductor, 22uH, ±10%, SMD 1210; Manufacturer: FH(Guangdong Fenghua Advanced Tech); Manufacturer Part Number: CMI322513J220K; Package Size: 1210; JLCPCB Basic Part: No; JLCPCB Part Number: C60537; Supplier 1: LCSC; Category: Inductors; Supplier Part Number 1: C60537; Tolerance: ±10%; RoHS: Yes; ComponentLink1Description: Datasheet; ComponentLink1URL: https://wmsc.lcsc.com/wmsc/upload/file/pdf/v2/lcsc/2304140030_FH--Guangdong-Fenghua-Advanced-Tech-CMI322513J220K_C60537.pdf; ComponentLink2Description: JLCPCB Part URL; ComponentLink2URL: https://jlcpcb.com/partdetail/C60537; ComponentLink3Description: LCSC Part URL; ComponentLink3URL: https://lcsc.com/product-detail/Inductors-SMD_FH-Guangdong-Fenghua-Advanced-Tech-FH-Guangdong-Fenghua-Advanced-Tech-CMI322513J220K_C60537.html
footprint IND-1210 (1210 (3225M) Inductor)
pins: 1, 2

## CMI322513J220KT
designator L?  Inductance: 22uH
Inductor, 22uH, ±10%, 750mΩ, 250mA, SMD 1210; Manufacturer: FH(Guangdong Fenghua Advanced Tech); Manufacturer Part Number: CMI322513J220KT; Self-Resonant Frequency: 10MHz; Q Factor: 35@1MHz; Package Size: 1210; JLCPCB Basic Part: No; JLCPCB Part Number: C394992; Supplier 1: LCSC; Category: Inductors; Supplier Part Number 1: C394992; Tolerance: ±10%; Rated Current: 250mA; DC Resistance: 750mΩ; RoHS: Yes; ComponentLink1Description: Datasheet; ComponentLink1URL: https://wmsc.lcsc.com/wmsc/upload/file/pdf/v2/lcsc/2302231030_FH--Guangdong-Fenghua-Advanced-Tech-CMI322513J220KT_C394992.pdf; ComponentLink2Description: JLCPCB Part URL; ComponentLink2URL: https://jlcpcb.com/partdetail/C394992; ComponentLink3Description: LCSC Part URL; ComponentLink3URL: https://lcsc.com/product-detail/Inductors-SMD_FH-Guangdong-Fenghua-Advanced-Tech-FH-Guangdong-Fenghua-Advanced-Tech-CMI322513J220KT_C394992.html
footprint IND-1210 (1210 (3225M) Inductor)
pins: 1, 2

## CMI322513J270KT
designator L?  Inductance: 27uH
Inductor, 27uH, ±10%, 750mΩ, 250mA, SMD 1210; Manufacturer: FH(Guangdong Fenghua Advanced Tech); Manufacturer Part Number: CMI322513J270KT; Self-Resonant Frequency: 10MHz; Q Factor: 35@1MHz; Package Size: 1210; JLCPCB Basic Part: No; JLCPCB Part Number: C394993; Supplier 1: LCSC; Category: Inductors; Supplier Part Number 1: C394993; Tolerance: ±10%; Rated Current: 250mA; DC Resistance: 750mΩ; RoHS: Yes; ComponentLink1Description: Datasheet; ComponentLink1URL: https://wmsc.lcsc.com/wmsc/upload/file/pdf/v2/lcsc/2302231030_FH--Guangdong-Fenghua-Advanced-Tech-CMI322513J270KT_C394993.pdf; ComponentLink2Description: JLCPCB Part URL; ComponentLink2URL: https://jlcpcb.com/partdetail/C394993; ComponentLink3Description: LCSC Part URL; ComponentLink3URL: https://lcsc.com/product-detail/Inductors-SMD_FH-Guangdong-Fenghua-Advanced-Tech-FH-Guangdong-Fenghua-Advanced-Tech-CMI322513J270KT_C394993.html
footprint IND-1210 (1210 (3225M) Inductor)
pins: 1, 2

## CMI322513J330KT
designator L?  Inductance: 33uH
Inductor, 33uH, ±10%, 800mΩ, 250mA, SMD 1210; Manufacturer: FH(Guangdong Fenghua Advanced Tech); Manufacturer Part Number: CMI322513J330KT; Self-Resonant Frequency: 10MHz; Q Factor: 35@1MHz; Package Size: 1210; JLCPCB Basic Part: No; JLCPCB Part Number: C394994; Supplier 1: LCSC; Category: Inductors; Supplier Part Number 1: C394994; Tolerance: ±10%; Rated Current: 250mA; DC Resistance: 800mΩ; RoHS: Yes; ComponentLink1Description: Datasheet; ComponentLink1URL: https://wmsc.lcsc.com/wmsc/upload/file/pdf/v2/lcsc/2302231030_FH--Guangdong-Fenghua-Advanced-Tech-CMI322513J330KT_C394994.pdf; ComponentLink2Description: JLCPCB Part URL; ComponentLink2URL: https://jlcpcb.com/partdetail/C394994; ComponentLink3Description: LCSC Part URL; ComponentLink3URL: https://lcsc.com/product-detail/Inductors-SMD_FH-Guangdong-Fenghua-Advanced-Tech-FH-Guangdong-Fenghua-Advanced-Tech-CMI322513J330KT_C394994.html
footprint IND-1210 (1210 (3225M) Inductor)
pins: 1, 2

## CMI322513J470KT
designator L?  Inductance: 47uH
Inductor, 47uH, ±10%, 1Ω, 200mA, SMD 1210; Manufacturer: FH(Guangdong Fenghua Advanced Tech); Manufacturer Part Number: CMI322513J470KT; Self-Resonant Frequency: 10MHz; Q Factor: 35@1MHz; Package Size: 1210; JLCPCB Basic Part: No; JLCPCB Part Number: C361668; Supplier 1: LCSC; Category: Inductors; Supplier Part Number 1: C361668; Tolerance: ±10%; Rated Current: 200mA; DC Resistance: 1Ω; RoHS: Yes; ComponentLink1Description: Datasheet; ComponentLink1URL: https://wmsc.lcsc.com/wmsc/upload/file/pdf/v2/lcsc/2302231208_FH--Guangdong-Fenghua-Advanced-Tech-CMI322513J470KT_C361668.pdf; ComponentLink2Description: JLCPCB Part URL; ComponentLink2URL: https://jlcpcb.com/partdetail/C361668; ComponentLink3Description: LCSC Part URL; ComponentLink3URL: https://lcsc.com/product-detail/Inductors-SMD_FH-Guangdong-Fenghua-Advanced-Tech-FH-Guangdong-Fenghua-Advanced-Tech-CMI322513J470KT_C361668.html
footprint IND-1210 (1210 (3225M) Inductor)
pins: 1, 2

## CMI322513J680M
designator L?  Inductance: 68uH
Inductor, 68uH, ±20%, SMD 1210; Manufacturer: FH(Guangdong Fenghua Advanced Tech); Manufacturer Part Number: CMI322513J680M; Package Size: 1210; JLCPCB Basic Part: No; JLCPCB Part Number: C60541; Supplier 1: LCSC; Category: Inductors; Supplier Part Number 1: C60541; Tolerance: ±20%; RoHS: Yes; ComponentLink1Description: Datasheet; ComponentLink1URL: https://wmsc.lcsc.com/wmsc/upload/file/pdf/v2/lcsc/2304140030_FH--Guangdong-Fenghua-Advanced-Tech-CMI322513J680M_C60541.pdf; ComponentLink2Description: JLCPCB Part URL; ComponentLink2URL: https://jlcpcb.com/partdetail/C60541; ComponentLink3Description: LCSC Part URL; ComponentLink3URL: https://lcsc.com/product-detail/Inductors-SMD_FH-Guangdong-Fenghua-Advanced-Tech-FH-Guangdong-Fenghua-Advanced-Tech-CMI322513J680M_C60541.html
footprint IND-1210 (1210 (3225M) Inductor)
pins: 1, 2

## CMI322513J680MT
designator L?  Inductance: 68uH
Inductor, 68uH, ±20%, 1.3Ω, 150mA, SMD 1210; Manufacturer: FH(Guangdong Fenghua Advanced Tech); Manufacturer Part Number: CMI322513J680MT; Self-Resonant Frequency: 5MHz; Q Factor: 35@1MHz; Package Size: 1210; JLCPCB Basic Part: No; JLCPCB Part Number: C401470; Supplier 1: LCSC; Category: Inductors; Supplier Part Number 1: C401470; Tolerance: ±20%; Rated Current: 150mA; DC Resistance: 1.3Ω; RoHS: Yes; ComponentLink1Description: Datasheet; ComponentLink1URL: https://wmsc.lcsc.com/wmsc/upload/file/pdf/v2/lcsc/2302231130_FH--Guangdong-Fenghua-Advanced-Tech-CMI322513J680MT_C401470.pdf; ComponentLink2Description: JLCPCB Part URL; ComponentLink2URL: https://jlcpcb.com/partdetail/C401470; ComponentLink3Description: LCSC Part URL; ComponentLink3URL: https://lcsc.com/product-detail/Inductors-SMD_FH-Guangdong-Fenghua-Advanced-Tech-FH-Guangdong-Fenghua-Advanced-Tech-CMI322513J680MT_C401470.html
footprint IND-1210 (1210 (3225M) Inductor)
pins: 1, 2

## CMI322513U1R0KT
designator L?  Inductance: 1uH
Inductor, 1uH, ±10%, 200mΩ, 600mA, SMD 1210; Manufacturer: FH(Guangdong Fenghua Advanced Tech); Manufacturer Part Number: CMI322513U1R0KT; Self-Resonant Frequency: 70MHz; Q Factor: 40@10MHz; Package Size: 1210; JLCPCB Basic Part: No; JLCPCB Part Number: C99412; Supplier 1: LCSC; Category: Inductors; Supplier Part Number 1: C99412; Tolerance: ±10%; Rated Current: 600mA; DC Resistance: 200mΩ; RoHS: Yes; ComponentLink1Description: Datasheet; ComponentLink1URL: https://wmsc.lcsc.com/wmsc/upload/file/pdf/v2/lcsc/2302231230_FH--Guangdong-Fenghua-Advanced-Tech-CMI322513U1R0KT_C99412.pdf; ComponentLink2Description: JLCPCB Part URL; ComponentLink2URL: https://jlcpcb.com/partdetail/C99412; ComponentLink3Description: LCSC Part URL; ComponentLink3URL: https://lcsc.com/product-detail/Inductors-SMD_FH-Guangdong-Fenghua-Advanced-Tech-FH-Guangdong-Fenghua-Advanced-Tech-CMI322513U1R0KT_C99412.html
footprint IND-1210 (1210 (3225M) Inductor)
pins: 1, 2

## CMI322513U1R5KT
designator L?  Inductance: 1.5uH
Inductor, 1.5uH, ±10%, 300mΩ, 500mA, SMD 1210; Manufacturer: FH(Guangdong Fenghua Advanced Tech); Manufacturer Part Number: CMI322513U1R5KT; Self-Resonant Frequency: 70MHz; Q Factor: 40@10MHz; Package Size: 1210; JLCPCB Basic Part: No; JLCPCB Part Number: C394996; Supplier 1: LCSC; Category: Inductors; Supplier Part Number 1: C394996; Tolerance: ±10%; Rated Current: 500mA; DC Resistance: 300mΩ; RoHS: Yes; ComponentLink1Description: Datasheet; ComponentLink1URL: https://wmsc.lcsc.com/wmsc/upload/file/pdf/v2/lcsc/2302231030_FH--Guangdong-Fenghua-Advanced-Tech-CMI322513U1R5KT_C394996.pdf; ComponentLink2Description: JLCPCB Part URL; ComponentLink2URL: https://jlcpcb.com/partdetail/C394996; ComponentLink3Description: LCSC Part URL; ComponentLink3URL: https://lcsc.com/product-detail/Inductors-SMD_FH-Guangdong-Fenghua-Advanced-Tech-FH-Guangdong-Fenghua-Advanced-Tech-CMI322513U1R5KT_C394996.html
footprint IND-1210 (1210 (3225M) Inductor)
pins: 1, 2

## CMI322513U1R8KT
designator L?  Inductance: 1.8uH
Inductor, 1.8uH, ±10%, 300mΩ, 500mA, SMD 1210; Manufacturer: FH(Guangdong Fenghua Advanced Tech); Manufacturer Part Number: CMI322513U1R8KT; Self-Resonant Frequency: 70MHz; Q Factor: 40@10MHz; Package Size: 1210; JLCPCB Basic Part: No; JLCPCB Part Number: C27774; Supplier 1: LCSC; Category: Inductors; Supplier Part Number 1: C27774; Tolerance: ±10%; Rated Current: 500mA; DC Resistance: 300mΩ; RoHS: Yes; ComponentLink1Description: Datasheet; ComponentLink1URL: https://wmsc.lcsc.com/wmsc/upload/file/pdf/v2/lcsc/2302231300_FH--Guangdong-Fenghua-Advanced-Tech-CMI322513U1R8KT_C27774.pdf; ComponentLink2Description: JLCPCB Part URL; ComponentLink2URL: https://jlcpcb.com/partdetail/C27774; ComponentLink3Description: LCSC Part URL; ComponentLink3URL: https://lcsc.com/product-detail/Inductors-SMD_FH-Guangdong-Fenghua-Advanced-Tech-FH-Guangdong-Fenghua-Advanced-Tech-CMI322513U1R8KT_C27774.html
footprint IND-1210 (1210 (3225M) Inductor)
pins: 1, 2

## CMI322513U2R2KT
designator L?  Inductance: 2.2uH
Inductor, 2.2uH, ±10%, 300mΩ, 500mA, SMD 1210; Manufacturer: FH(Guangdong Fenghua Advanced Tech); Manufacturer Part Number: CMI322513U2R2KT; Self-Resonant Frequency: 50MHz; Q Factor: 40@10MHz; Package Size: 1210; JLCPCB Basic Part: No; JLCPCB Part Number: C70960; Supplier 1: LCSC; Category: Inductors; Supplier Part Number 1: C70960; Tolerance: ±10%; Rated Current: 500mA; DC Resistance: 300mΩ; RoHS: Yes; ComponentLink1Description: Datasheet; ComponentLink1URL: https://wmsc.lcsc.com/wmsc/upload/file/pdf/v2/lcsc/2302231300_FH--Guangdong-Fenghua-Advanced-Tech-CMI322513U2R2KT_C70960.pdf; ComponentLink2Description: JLCPCB Part URL; ComponentLink2URL: https://jlcpcb.com/partdetail/C70960; ComponentLink3Description: LCSC Part URL; ComponentLink3URL: https://lcsc.com/product-detail/Inductors-SMD_FH-Guangdong-Fenghua-Advanced-Tech-FH-Guangdong-Fenghua-Advanced-Tech-CMI322513U2R2KT_C70960.html
footprint IND-1210 (1210 (3225M) Inductor)
pins: 1, 2

## CMI322513U3R3KT
designator L?  Inductance: 3.3uH
Inductor, 3.3uH, ±10%, 400mΩ, 500mA, SMD 1210; Manufacturer: FH(Guangdong Fenghua Advanced Tech); Manufacturer Part Number: CMI322513U3R3KT; Self-Resonant Frequency: 50MHz; Q Factor: 40@10MHz; Package Size: 1210; JLCPCB Basic Part: No; JLCPCB Part Number: C139240; Supplier 1: LCSC; Category: Inductors; Supplier Part Number 1: C139240; Tolerance: ±10%; Rated Current: 500mA; DC Resistance: 400mΩ; RoHS: Yes; ComponentLink1Description: Datasheet; ComponentLink1URL: https://wmsc.lcsc.com/wmsc/upload/file/pdf/v2/lcsc/2302231230_FH--Guangdong-Fenghua-Advanced-Tech-CMI322513U3R3KT_C139240.pdf; ComponentLink2Description: JLCPCB Part URL; ComponentLink2URL: https://jlcpcb.com/partdetail/C139240; ComponentLink3Description: LCSC Part URL; ComponentLink3URL: https://lcsc.com/product-detail/Inductors-SMD_FH-Guangdong-Fenghua-Advanced-Tech-FH-Guangdong-Fenghua-Advanced-Tech-CMI322513U3R3KT_C139240.html
footprint IND-1210 (1210 (3225M) Inductor)
pins: 1, 2

## CMI322513U4R7KT
designator L?  Inductance: 4.7uH
Inductor, 4.7uH, ±10%, 500mΩ, 500mA, SMD 1210; Manufacturer: FH(Guangdong Fenghua Advanced Tech); Manufacturer Part Number: CMI322513U4R7KT; Self-Resonant Frequency: 30MHz; Q Factor: 40@10MHz; Package Size: 1210; JLCPCB Basic Part: No; JLCPCB Part Number: C60534; Supplier 1: LCSC; Category: Inductors; Supplier Part Number 1: C60534; Tolerance: ±10%; Rated Current: 500mA; DC Resistance: 500mΩ; RoHS: Yes; ComponentLink1Description: Datasheet; ComponentLink1URL: https://wmsc.lcsc.com/wmsc/upload/file/pdf/v2/lcsc/2302231300_FH--Guangdong-Fenghua-Advanced-Tech-CMI322513U4R7KT_C60534.pdf; ComponentLink2Description: JLCPCB Part URL; ComponentLink2URL: https://jlcpcb.com/partdetail/C60534; ComponentLink3Description: LCSC Part URL; ComponentLink3URL: https://lcsc.com/product-detail/Inductors-SMD_FH-Guangdong-Fenghua-Advanced-Tech-FH-Guangdong-Fenghua-Advanced-Tech-CMI322513U4R7KT_C60534.html
footprint IND-1210 (1210 (3225M) Inductor)
pins: 1, 2